# Altium footprint library BrewBit.PcbLib: 85 footprints (part 5 of 6)
Each footprint in its own frame and in the unit in brackets; x right, y up, seen from the top. Pads: shape width x height; smd on the part's side, far side on the other; paste and mask are expansions set on the pad; w line width, h text height; cw(c..) or ccw(c..) is an arc to the next point about the centre after c.
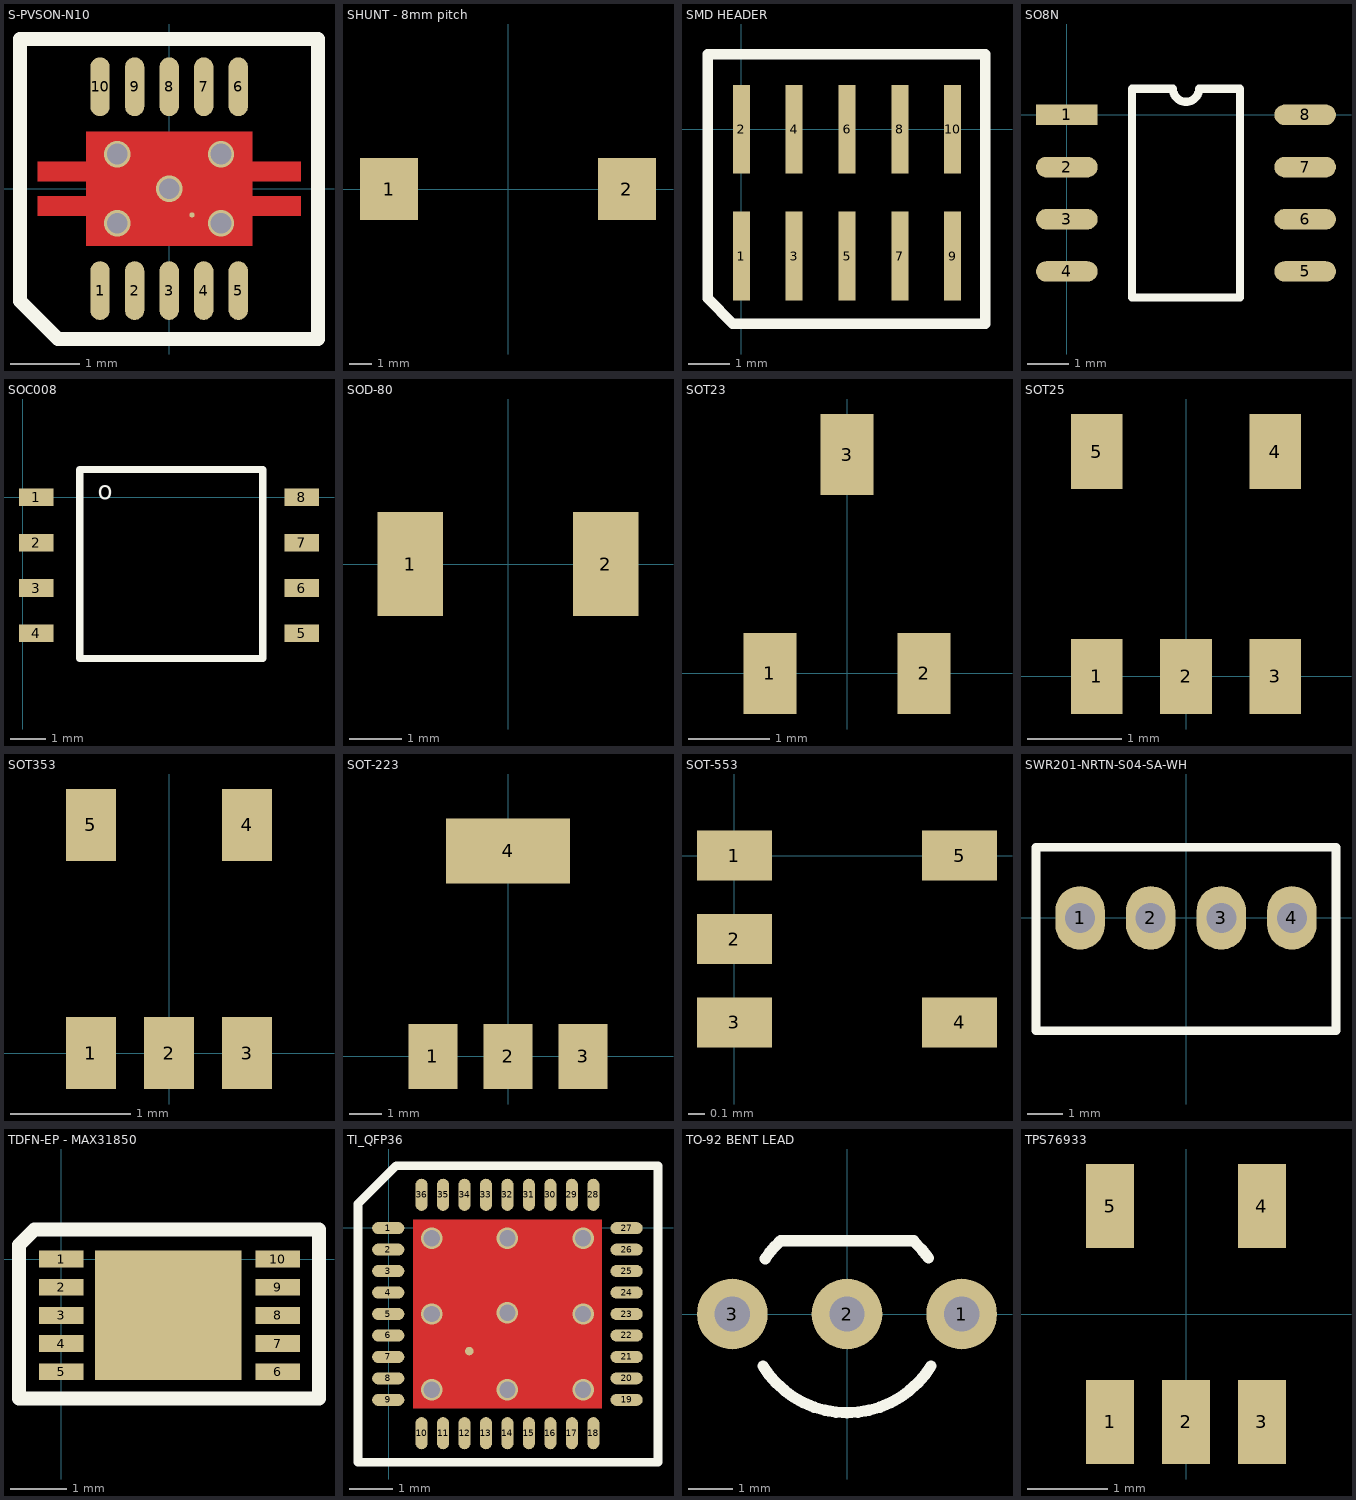
[diagram p4: the footprints below, top view; thin cyan lines are the x and y axes]

## S-PVSON-N10 [mm]
pads (11):
  oval 0.28x0.85 smd mask+0.07: 1(-1,-1.475) 2(-0.5,-1.475) 3(0,-1.475) 4(0.5,-1.475) 5(1,-1.475) 6(1,1.475) 7(0.5,1.475) 8(0,1.475) 9(-0.5,1.475) 10(-1,1.475)
  round 0.076 smd: 11(0.33,-0.38)
via 0,0 diameter 0.381 hole 0.3
via 0.75,0.5 diameter 0.381 hole 0.3
via 0.75,-0.5 diameter 0.381 hole 0.3
via -0.75,-0.5 diameter 0.381 hole 0.3
via -0.75,0.5 diameter 0.381 hole 0.3
Top Layer:
  region: -1.2,0.825 1.2,0.825 1.2,0.39 1.9,0.39 1.9,0.11 1.2,0.11 1.2,-0.11 1.9,-0.11 1.9,-0.39 1.2,-0.39 1.2,-0.825 -1.2,-0.825 -1.2,-0.39 -1.9,-0.39 -1.9,-0.11 -1.2,-0.11 -1.2,0.11 -1.9,0.11 -1.9,0.39 -1.2,0.39
Top Overlay:
  lines w0.2: -2.16,-1.625 -1.61,-2.175 2.155,-2.175 2.155,2.165 -2.16,2.165 -2.16,-1.625
Top Paste:
  region: -1.38,0.12 -1.38,0.38 -1.88,0.38 -1.88,0.12
  region: -1.38,-0.38 -1.38,-0.12 -1.88,-0.12 -1.88,-0.38
  region: 1.88,-0.38 1.88,-0.12 1.38,-0.12 1.38,-0.38
  region: 1.88,0.12 1.88,0.38 1.38,0.38 1.38,0.12
  region: -0.11,0.11 -0.11,0.79 -1.16,0.79 -1.16,0.11
  region: 1.16,0.11 1.16,0.79 0.11,0.79 0.11,0.11
  region: 1.16,-0.79 1.16,-0.11 0.11,-0.11 0.11,-0.79
  region: -0.11,-0.79 -0.11,-0.11 -1.16,-0.11 -1.16,-0.79
Top Solder:
  region: -1.27,0.895 1.27,0.895 1.27,0.46 1.97,0.46 1.97,0.04 1.27,0.04 1.265,-0.04 1.965,-0.04 1.97,-0.46 1.27,-0.46 1.27,-0.9 -1.27,-0.895 -1.27,-0.46 -1.97,-0.46 -1.97,-0.04 -1.27,-0.04 -1.27,0.04 -1.97,0.04 -1.97,0.46 -1.27,0.46

## SHUNT - 8mm pitch [mm]
pads (2):
  rect 2.6x2.8 smd: 1(-5.35,0) 2(5.35,0)

## SMD HEADER [mil]
pads (10):
  rect 16x84 smd: 1(0,-120) 2(0,0) 3(50,-120) 4(50,0) 5(100,-120) 6(100,0) 7(150,-120) 8(150,0) 9(200,-120) 10(200,0)
Top Overlay:
  lines w10: -32,-160 -32,71 231,71 231,-184 -8,-184 -32,-160

## SO8N [mm]
pads (8):
  rect 1.5x0.5 smd: 1(0,0)
  oval 1.5x0.5 smd: 2(0,-1.27) 3(0,-2.54) 4(0,-3.81) 5(5.8,-3.81) 6(5.8,-2.54) 7(5.8,-1.27) 8(5.8,0)
Top Overlay:
  lines w0.2: 1.585,-4.445 1.585,0.635 2.582,0.635 ccw(c2.9,0.635) 3.217,0.635 4.215,0.635 4.215,-4.445 1.585,-4.445

## SOC008 [mm]
pads (8):
  rect 0.962x0.495 smd: 1(0.381,0) 2(0.381,-1.27) 3(0.381,-2.54) 4(0.381,-3.81) 5(7.82,-3.81) 6(7.82,-2.54) 7(7.82,-1.27) 8(7.82,0)
Top Overlay:
  lines w0.2: 1.6,-4.508 1.6,0.775 6.725,0.775 6.725,-4.508 1.6,-4.508
  text "o" at 2.1,-0.05 h0.5

## SOD-80 [mm] "Mini-MELF"
height 1.6
pads (2):
  rect 1.25x2 smd: 1(-1.875,0) 2(1.875,0)

## SOT23 [mm]
pads (3):
  rect 0.65x1 smd: 1(-0.95,0) 2(0.95,0) 3(0,2.7)

## SOT25 [mm]
pads (5):
  rect 0.55x0.8 smd: 1(-0.95,0) 2(0,0) 3(0.95,0) 4(0.95,2.4) 5(-0.95,2.4)

## SOT353 [mm]
pads (5):
  rect 0.42x0.6 smd: 1(-0.65,0) 2(0,0) 3(0.65,0) 4(0.65,1.9) 5(-0.65,1.9)

## SOT-223 [mm]
pads (4):
  rect 1.5x2 smd: 1(-2.3,0) 2(0,0) 3(2.3,0)
  rect 3.8x2 smd: 4(0,6.3)

## SOT-553 [mm]
pads (5):
  rect 0.45x0.3 smd mask+0.05: 1(0,0) 2(0,-0.5) 3(0,-1) 4(1.35,-1) 5(1.35,0)

## SWR201-NRTN-S04-SA-WH [mm] "4 pin shrouded header"
height 6
pads (4):
  oval 1.4x1.8 hole 0.85: 1(-3,0) 2(-1,0) 3(1,0) 4(3,0)
Top Overlay:
  lines w0.254: -4.25,-3.2 -4.25,2 4.25,2 4.25,-3.2 -4.25,-3.2

## TDFN-EP - MAX31850 [mm]
pads (11):
  rect 0.79x0.3 smd mask+0.05: 1(0,0) 2(0,-0.5) 3(0,-1) 4(0,-1.5) 5(0,-2) 6(3.84,-2) 7(3.84,-1.5) 9(3.84,-0.5) 10(3.84,0)
  rect 0.79x0.3 smd paste+0 mask+0.05: 8(3.84,-1)
  rect 2.6x2.3 smd mask+0.05: ""(1.9,-1)
Top Overlay:
  lines w0.254: -0.75,-2.475 -0.75,0.25 -0.475,0.525 4.575,0.525 4.575,-2.475 -0.75,-2.475

## TI_QFP36 [mm]
pads (37):
  oval 0.75x0.28 smd mask+0.051: 1(-0.006,-0.007) 2(-0.006,-0.507) 3(-0.006,-1.007) 4(-0.006,-1.507) 5(-0.006,-2.007) 6(-0.006,-2.507) 7(-0.006,-3.007) 8(-0.006,-3.507) 9(-0.006,-4.007) 19(5.544,-4.007) 20(5.544,-3.507) 21(5.544,-3.007) 22(5.544,-2.507) 23(5.544,-2.007) 24(5.544,-1.507) 25(5.544,-1.007) 26(5.544,-0.507) 27(5.544,-0.007)
  oval 0.28x0.75 smd mask+0.051: 10(0.769,-4.782) 11(1.269,-4.782) 12(1.769,-4.782) 13(2.269,-4.782) 14(2.769,-4.782) 15(3.269,-4.782) 16(3.769,-4.782) 17(4.269,-4.782) 18(4.769,-4.782) 28(4.769,0.768) 29(4.269,0.768) 30(3.769,0.768) 31(3.269,0.768) 32(2.769,0.768) 33(2.269,0.768) 34(1.769,0.768) 35(1.269,0.768) 36(0.769,0.768)
  round 0.2 smd: 37(1.88,-2.87)
via 2.769,-1.981 diameter 0.5 hole 0.381
via 1.009,-0.247 diameter 0.5 hole 0.381
via 2.769,-0.247 diameter 0.5 hole 0.381
via 4.529,-0.247 diameter 0.5 hole 0.381
via 1.009,-2.007 diameter 0.5 hole 0.381
via 4.529,-2.007 diameter 0.5 hole 0.381
via 1.009,-3.767 diameter 0.5 hole 0.381
via 2.769,-3.767 diameter 0.5 hole 0.381
via 4.529,-3.767 diameter 0.5 hole 0.381
Top Layer:
  rectangle: 0.569,-4.207 4.969,0.193
Top Overlay:
  lines w0.2: -0.711,-5.461 6.274,-5.461 6.274,1.448 0.178,1.448 -0.711,0.559 -0.711,-5.461
Top Paste:
  circle w0.25: c1.889,-3.75 r0.12
  circle w0.25: c1.889,-2.87 r0.12
  circle w0.25: c3.649,-3.75 r0.12
  circle w0.25: c3.649,-2.87 r0.12
  circle w0.25: c2.769,-1.127 r0.12
  circle w0.25: c1.889,-1.127 r0.12
  circle w0.25: c2.769,-2.887 r0.12
  circle w0.25: c3.649,-2.007 r0.12
  circle w0.25: c3.649,-1.127 r0.12
  circle w0.25: c3.649,-0.247 r0.12
  circle w0.25: c4.529,-1.127 r0.12
  circle w0.25: c4.529,-2.887 r0.12
  circle w0.25: c1.889,-2.007 r0.12
  circle w0.25: c1.889,-0.247 r0.12
  circle w0.25: c1.009,-1.127 r0.12
  circle w0.25: c1.009,-2.887 r0.12
Top Solder:
  rectangle: 3.209,-4.207 4.089,0.193
  rectangle: 0.569,-3.327 4.969,-2.447
  rectangle: 0.569,-1.567 4.969,-0.687
  rectangle: 1.449,-4.207 2.329,0.193

## TO-92 BENT LEAD [mm] "TO-92 0.2 LEAD SPACING"
pads (3):
  round 1.6 hole 0.8: 1(2.6,0) 2(0,0) 3(-2.6,0)
Top Overlay:
  lines w0.254: -1.904,-1.178 ccw(c0,0) 1.904,-1.178 ; -1.855,1.254 cw(c0,0) -1.504,1.659 1.515,1.659 ; 1.515,1.648 cw(c0,0) 1.846,1.268

## TPS76933 [mm] "IC REG LDO 3.3V .1A SOT-23-5"
pads (5):
  rect 0.6x1.05 smd mask+0.07: 1(-0.95,-1.346) 2(0,-1.346) 3(0.95,-1.346) 4(0.95,1.354) 5(-0.95,1.354)